# Altium schematic symbol library Connectors USB.SchLib: 20 symbols
Pins are listed as number, name and electrical type; pins without a type are passive.

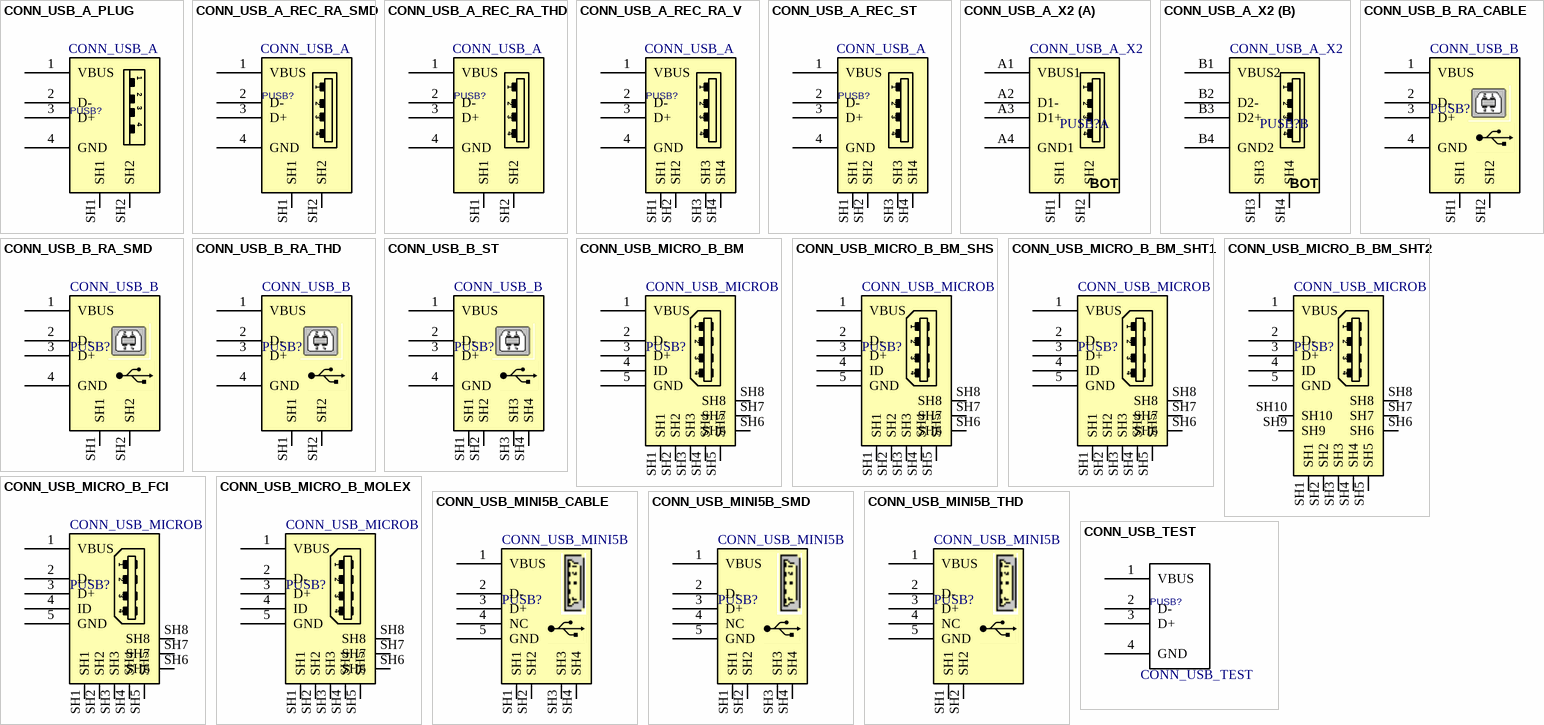
[diagram p0: symbols CONN_USB_A_PLUG to CONN_USB_TEST]

## CONN_USB_A_PLUG
designator PUSB?, comment CONN_USB_A
CONN, USB, A, PLUG, THD; VALUE: CONN_USB_A
footprint USB_A_PLG_RA (CONN, USB, Type A, PLUG, Right Angle, SMD, THD)
pins: 1 VBUS, 2 D-, 3 D+, 4 GND, SH1, SH2

## CONN_USB_A_REC_RA_SMD
designator PUSB?, comment CONN_USB_A
CONN, USB, A, RECEPTACLE, R/A, SMD; VALUE: CONN_USB_A
footprint USB_A_REC_RA_SMD (CONN, USB A, Receptacle, RIGHT ANGLE, SMD)
pins: 1 VBUS, 2 D-, 3 D+, 4 GND, SH1, SH2

## CONN_USB_A_REC_RA_THD
designator PUSB?, comment CONN_USB_A
CONN, USB, A, RECEPTACLE, R/A, THD; VALUE: CONN_USB_A
footprint USB_A_REC_RA_THD (CONN, USB A, Receptacle, RIGHT ANGLE, THD)
pins: 1 VBUS, 2 D-, 3 D+, 4 GND, SH1, SH2

## CONN_USB_A_REC_RA_V
designator PUSB?, comment CONN_USB_A
CONN, USB, A, RECEPTACLE, R/A, THD, VERTICAL; VALUE: CONN_USB_A
footprint USB_A_REC_RA_V (CONN, USB A, Right Angle, VERTICAL, THD)
pins: 1 VBUS, 2 D-, 3 D+, 4 GND, SH1, SH2, SH3, SH4

## CONN_USB_A_REC_ST
designator PUSB?, comment CONN_USB_A
CONN, USB, A, RECEPTACLE, STRAIGHT, THD; VALUE: CONN_USB_A
footprint USB_A_REC_ST (CONN, USB A, Receptacle, STRAIGHT, THD)
pins: 1 VBUS, 2 D-, 3 D+, 4 GND, SH1, SH2, SH3, SH4

## CONN_USB_A_X2
designator PUSB?
CONN, USB, A, RECEPTACLE, R/A, THD, DUAL; MANF_P#: 5787617-1; MANF: TE Connectivity; VALUE: CONN_USB_A_X2
footprint USBA-2J (Dual port USB connector)
part A pins: A1 VBUS1, A2 D1-, A3 D1+, A4 GND1, SH1, SH2
part B pins: B1 VBUS2, B2 D2-, B3 D2+, B4 GND2, SH3, SH4
part A text: 1; 2; 3; 4; BOT
part B text: 1; 2; 3; 4; BOT

## CONN_USB_B_RA_CABLE
designator PUSB?, comment CONN_USB_B
CONN, USB, B, R/A, THD, CABLE; MANF_P#: -; MANF: -; VALUE: CONN_USB_B
footprint USB_B_RA_CABLE (CONN, USB B, Receptacle, RIGHT ANGLE, THD)
pins: 1 VBUS (power), 2 D-, 3 D+, 4 GND (power), SH1, SH2

## CONN_USB_B_RA_SMD
designator PUSB?, comment CONN_USB_B
CONN, USB, B, R/A, SMD; MANF_P#: KUSBEX-SMT-BS1N-BTR; MANF: Kycon; MANF_P#2: KUSBX-SMTBS1NBTR, KUSBX-SMTBS1NWTR; VALUE: CONN_USB_B
footprint USB_B_RA_SMD (CONN, USB B, Receptacle, RIGHT ANGLE, SMD)
pins: 1 VBUS (power), 2 D-, 3 D+, 4 GND (power), SH1, SH2

## CONN_USB_B_RA_THD
designator PUSB?, comment CONN_USB_B
CONN, USB, B, R/A, THD; MANF_P#: 292304-1; MANF: TE Connectivity; VALUE: CONN_USB_B
footprint USB_B_RA_THD (CONN, USB B, Receptacle, RIGHT ANGLE, THD)
pins: 1 VBUS (power), 2 D-, 3 D+, 4 GND (power), SH1, SH2

## CONN_USB_B_ST
designator PUSB?, comment CONN_USB_B
CONN, USB, B, STRAIGHT, THD; MANF_P#: -; MANF: -; VALUE: CONN_USB_B
footprint USB_B_ST (CONN, USB B, Receptacle, STRAIGHT, THD)
pins: 1 VBUS (power), 2 D-, 3 D+, 4 GND (power), SH1, SH2, SH3, SH4

## CONN_USB_MICRO_B_BM
designator PUSB?, comment CONN_USB_MICROB
CONN, USB, MICRO B, R/A, SMD, BOTTOM MOUNT; MANF_P#: 47590-0001; MANF: Molex; MANF_P#2: 47346-0001 Molex, ZX62-AB-5PA-11 HIROSE, 1981584-1 TE; PARAM2: 30VAC; PARAM: 1.8A, -20~85oC; PRICE: 0.75$; VALUE: CONN_USB_MICROB
footprint USB_MICRO_B_BM (CONN, USB Micro AB - Standard (Bottom mount), Shell THD, G610)
pins: 1 VBUS (power), 2 D-, 3 D+, 4 ID (power), 5 GND (power), SH1, SH2, SH3, SH4, SH5, SH6, SH7, SH8

## CONN_USB_MICRO_B_BM_SHS
designator PUSB?, comment CONN_USB_MICROB
CONN, USB, MICRO B, R/A, SMD, BOTTOM MOUNT, SHS; MANF_P#: ZX62-AB-5PA-11; MANF: HIROSE; MANF_P#2: 47346-0001 Molex, ZX62-AB-5PA-11 HIROSE, 1981584-1 TE; VALUE: CONN_USB_MICROB
footprint USB_MICRO_B_BM_SHS (CONN, USB Micro AB - Standard (Bottom mount), Shell SMT)
pins: 1 VBUS (power), 2 D-, 3 D+, 4 ID (power), 5 GND (power), SH1, SH2, SH3, SH4, SH5, SH6, SH7, SH8

## CONN_USB_MICRO_B_BM_SHT1
designator PUSB?, comment CONN_USB_MICROB
CONN, USB, MICRO B, R/A, SMD, BOTTOM MOUNT, SHT; MANF_P#: 47590-0001; MANF: MOLEX; VALUE: CONN_USB_MICROB
footprint USB_MICRO_B_BM_SHT1 (CONN, USB Micro AB - Standard (Bottom mount), Shell through hole)
pins: 1 VBUS (power), 2 D-, 3 D+, 4 ID (power), 5 GND (power), SH1, SH2, SH3, SH4, SH5, SH6, SH7, SH8

## CONN_USB_MICRO_B_BM_SHT2
designator PUSB?, comment CONN_USB_MICROB
CONN, USB, MICRO B, R/A, SMD, BOTTOM MOUNT, SHT; MANF_P#: 47590-0001; MANF: MOLEX; VALUE: CONN_USB_MICROB
footprint USB_MICRO_B_BM_SHT2 (CONN, USB Micro AB - Standard (Bottom mount), Shell SMT)
pins: 1 VBUS (power), 2 D-, 3 D+, 4 ID (power), 5 GND (power), SH1, SH2, SH3, SH4, SH5, SH6, SH7, SH8, SH9, SH10

## CONN_USB_MICRO_B_FCI
designator PUSB?, comment CONN_USB_MICROB
CONN, USB, MICRO B, R/A, SMD, BOTTOM MOUNT; MANF_P#: 10103593-0001LF; MANF: FCI; VALUE: CONN_USB_MICROB
footprint USB_MICRO_B_FCI (CONN, USB Micro AB)
pins: 1 VBUS (power), 2 D-, 3 D+, 4 ID (power), 5 GND (power), SH1, SH2, SH3, SH4, SH5, SH6, SH7, SH8

## CONN_USB_MICRO_B_MOLEX
designator PUSB?, comment CONN_USB_MICROB
CONN, USB, MICRO B, R/A, SMD, BOTTOM MOUNT; MANF_P#: 47491-0001; MANF: MOLEX; VALUE: CONN_USB_MICROB
footprint USB_MICRO_B_MOLEX (CONN, USB Micro AB)
pins: 1 VBUS (power), 2 D-, 3 D+, 4 ID (power), 5 GND (power), SH1, SH2, SH3, SH4, SH5, SH6, SH7, SH8

## CONN_USB_MINI5B_CABLE
designator PUSB?, comment CONN_USB_MINI5B
CONN, USB, MINI 5 B, R/A, SMD; MANF_P#: UX60-MB-5ST; MANF: Hirose; MANF_P#2: 67503-1020 MOLEX; VALUE: CONN_USB_MINI5B
footprint USB_MINI_B5_CABLE (CONN, USB MINI B, 5PIN, RIGHT ANGLE, SMD)
pins: 1 VBUS (power), 2 D-, 3 D+, 4 NC (power), 5 GND (power), SH1, SH2, SH3, SH4

## CONN_USB_MINI5B_SMD
designator PUSB?, comment CONN_USB_MINI5B
CONN, USB, MINI 5 B, R/A, SMD; MANF_P#: UX60-MB-5ST; MANF: Hirose; MANF_P#2: 67503-1020 MOLEX; VALUE: CONN_USB_MINI5B
footprint USB_MINI_B5_SMD (CONN, USB MINI B, 5PIN, RIGHT ANGLE, SMD)
pins: 1 VBUS (power), 2 D-, 3 D+, 4 NC (power), 5 GND (power), SH1, SH2, SH3, SH4

## CONN_USB_MINI5B_THD
designator PUSB?, comment CONN_USB_MINI5B
CONN, USB, MINI 5 B, R/A, THD; MANF_P#: -; MANF: -; VALUE: CONN_USB_MINI5B
footprint USB_MINI_B5_THD (CONN, USB MINI B, 5PIN, RIGHT ANGLE, THD)
pins: 1 VBUS (power), 2 D-, 3 D+, 4 NC (power), 5 GND (power), SH1, SH2

## CONN_USB_TEST
designator PUSB?
CONN, USB, TEST; VALUE: CONN_USB_TEST
footprint USBTEST (CONN, USB A Receptacle RIGHT ANGLE)
pins: 1 VBUS, 2 D-, 3 D+, 4 GND